# Altium footprint library CP2102-GM.PcbLib: 2 footprints
Each footprint in its own frame and in the unit in brackets; x right, y up, seen from the top. Pads: shape width x height; smd on the part's side, far side on the other; paste and mask are expansions set on the pad; w line width, h text height; cw(c..) or ccw(c..) is an arc to the next point about the centre after c.
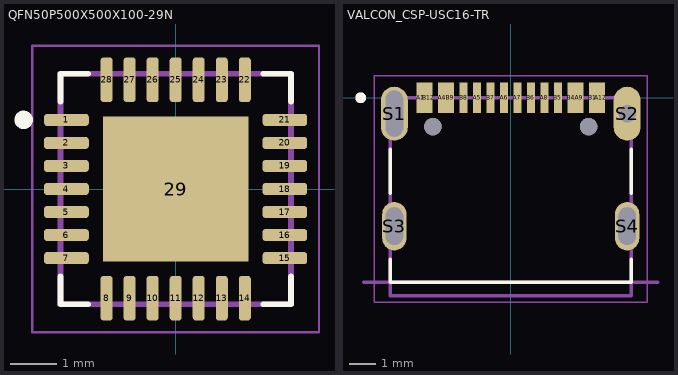
[diagram p0: the footprints below, top view; thin cyan lines are the x and y axes]

## QFN50P500X500X100-29N [mm]
pads (29):
  rrect50% 0.97x0.26 smd: 1(-2.37,1.5) 2(-2.37,1) 3(-2.37,0.5) 4(-2.37,0) 5(-2.37,-0.5) 6(-2.37,-1) 7(-2.37,-1.5) 15(2.37,-1.5) 16(2.37,-1) 17(2.37,-0.5) 18(2.37,0) 19(2.37,0.5) 20(2.37,1) 21(2.37,1.5)
  rrect50% 0.26x0.97 smd: 8(-1.5,-2.37) 9(-1,-2.37) 10(-0.5,-2.37) 11(0,-2.37) 12(0.5,-2.37) 13(1,-2.37) 14(1.5,-2.37) 22(1.5,2.37) 23(1,2.37) 24(0.5,2.37) 25(0,2.37) 26(-0.5,2.37) 27(-1,2.37) 28(-1.5,2.37)
  rect 3.15x3.15 smd paste-0.585: 29(0,0)
Top Overlay:
  circle w0.2: c-3.3,1.5 r0.1
  lines w0.127: -2.5,-1.9 -2.5,-2.5 -1.9,-2.5 ; -2.5,1.9 -2.5,2.5 -1.9,2.5 ; 1.9,-2.5 2.5,-2.5 2.5,-1.9 ; 1.9,2.5 2.5,2.5 2.5,1.9
Mechanical 13:
  lines w0.127: -2.5,-2.5 -2.5,2.5 2.5,2.5 2.5,-2.5 -2.5,-2.5
Mechanical 15:
  lines w0.05: -3.11,-3.11 -3.11,3.11 3.11,3.11 3.11,-3.11 -3.11,-3.11
3D body "step_temp.STEP": height 1, standoff 0, extent -2.5,-2.5 2.5,2.5

## VALCON_CSP-USC16-TR [mm]
height 3.26
pads (22):
  rect 0.3x1.14 smd: A1(-3.35,0) A4(-2.55,0) A5(-1.25,0) A6(-0.25,0) A7(0.25,0) A8(1.25,0) A9(2.55,0) A12(3.35,0) B1(3.05,0) B4(2.25,0) B5(1.75,0) B6(0.75,0) B7(-0.75,0) B8(-1.75,0) B9(-2.25,0) B12(-3.05,0)
  oval 1x2 hole 0.65 slot 1.72 at 90 deg: S1(-4.325,-0.59)
  oval 1x2 hole 0.65: S2(4.325,-0.59)
  oval 0.9x1.8 hole 0.65 slot 1.4 at 90 deg: S3(-4.325,-4.77) S4(4.325,-4.77)
  round 0.65 hole 0.65 unplated: ""(-2.89,-1.07) ""(2.89,-1.07)
Top Overlay:
  circle w0.2: c-5.575,0 r0.1
  lines w0.127: -4.47,-6 -4.47,-6.86 4.47,-6.86 4.47,-6 ; -4.47,-3.55 -4.47,-1.91 ; 4.47,-3.55 4.47,-1.91
Mechanical 1:
  lines w0: 4,-0.093 cw(c4.335,-0.075) 4.317,0.26 cw(c4.335,-0.055) 4.65,-0.038 ; 4,-0.09 4,-1.14 ccw(c4.31,-1.13) 4.321,-1.44 ; 4.318,-1.44 ccw(c4.335,-1.125) 4.65,-1.142 ; 4.65,-1.14 4.65,-0.04
Mechanical 13:
  circle w0.2: c-5.575,0 r0.1
  lines w0.127: -5.47,-6.86 5.47,-6.86 ; -4.47,-7.35 4.47,-7.35 4.47,0 -4.47,0 -4.47,-7.35
  text "PCB Edge" at -2.07,-6.6 h0.7
Mechanical 15:
  lines w0.05: -5.075,-7.6 5.075,-7.6 5.075,0.82 -5.075,0.82 -5.075,-7.6
3D body "step_temp.STEP": height 3.26, standoff -1, extent -4.47,-6.28 4.47,1.47